# Altium footprint library C1206C225K5RACTU.PcbLib: 3 footprints
Each footprint in its own frame and in the unit in brackets; x right, y up, seen from the top. Pads: shape width x height; smd on the part's side, far side on the other; paste and mask are expansions set on the pad; w line width, h text height; cw(c..) or ccw(c..) is an arc to the next point about the centre after c.
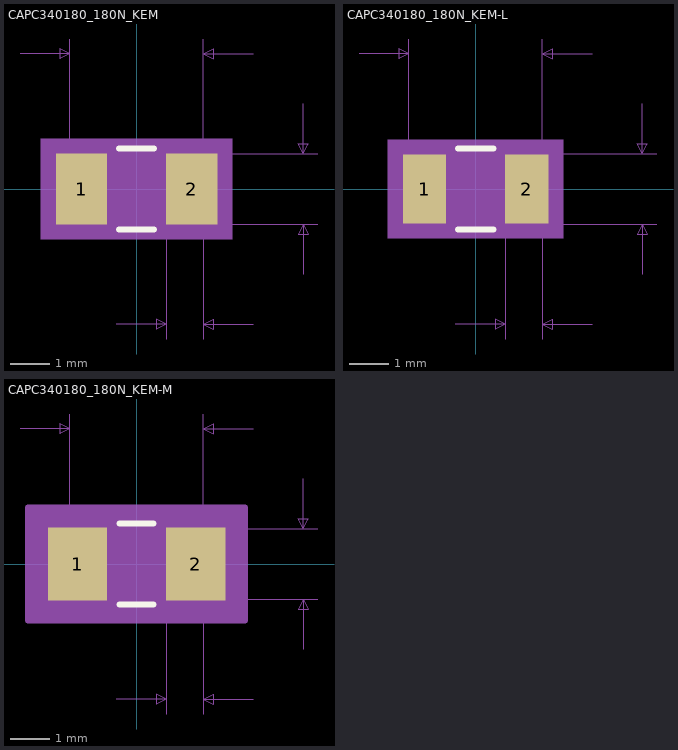
[diagram p0: the footprints below, top view; thin cyan lines are the x and y axes]

## CAPC340180_180N_KEM [mm]
pads (2):
  rect 1.306x1.8 smd paste+0 mask+0: 1(-1.403,0) 2(1.403,0)
Top Overlay:
  lines w0.152: -0.442,-1.027 0.442,-1.027 ; -0.442,1.027 0.442,1.027
Mechanical 5:
  region: 2.437,-1.281 -2.437,-1.281 -2.437,1.281 2.437,1.281
Mechanical 7:
  lines w0.025: -2.97,3.44 -1.7,3.44 ; -1.7,0 -1.7,3.821 ; -0.52,-3.44 0.75,-3.44 ; 0,-0.9 4.621,-0.9 ; 0,0.9 4.621,0.9 ; 0.75,-3.821 0.75,0 ; 1.7,-3.821 1.7,0 1.7,3.821 ; 2.97,-3.44 1.7,-3.44 ; 2.97,3.44 1.7,3.44 ; 4.24,-2.17 4.24,-0.9 ; 4.24,2.17 4.24,0.9 ; -1.7,3.44 -1.954,3.567 -1.954,3.313 -1.7,3.44 ; 0.75,-3.44 0.496,-3.313 0.496,-3.567 0.75,-3.44 ; 1.7,-3.44 1.954,-3.313 1.954,-3.567 1.7,-3.44 ; 1.7,3.44 1.954,3.567 1.954,3.313 1.7,3.44 ; 4.24,-0.9 4.113,-1.154 4.367,-1.154 4.24,-0.9 ; 4.24,0.9 4.113,1.154 4.367,1.154 4.24,0.9
  text "Default Padstyle: RX51p4Y70p87D0T" at -10.477,-7.758 h1.27
  text "Alternate 1 Padstyle: OX60Y90D30P" at -10.477,-10.298 h1.27
  text "Alternate 2 Padstyle: OX90Y60D30P" at -10.477,-12.838 h1.27
  text "0.071in/1.8mm" at 4.748,-0.318 h0.64
  text "0.134in/3.4mm" at -2.064,3.948 h0.64
  text "0.03in/0.75mm" at -0.839,-4.583 h0.64
Mechanical 13:
  lines w0.025: -1.7,-0.9 -1.7,0.9 ; -1.7,-0.9 -0.95,-0.9 -0.95,0.9 -1.7,0.9 ; -1.7,-0.9 1.7,-0.9 ; -1.7,-0.9 -1.7,0.9 ; -1.7,0.9 1.7,0.9 ; 1.7,-0.9 0.95,-0.9 0.95,0.9 1.7,0.9 ; 1.7,-0.9 1.7,0.9 ; 1.7,-0.9 1.7,0.9
Mechanical 15:
  region: 2.31,-1.154 -2.31,-1.154 -2.31,1.154 2.31,1.154
  lines w0.152: -2.31,-1.154 -2.31,1.154 2.31,1.154 2.31,-1.154 -2.31,-1.154
3D body "CAPC340180_180N_KEM.step": height 1.8, standoff 0, extent -1.7,-0.9 1.7,0.9

## CAPC340180_180N_KEM-L [mm]
pads (2):
  rect 1.102x1.749 smd paste+0 mask+0: 1(-1.301,0) 2(1.301,0)
Top Overlay:
  lines w0.152: -0.454,-1.027 0.454,-1.027 ; -0.454,1.027 0.454,1.027
Mechanical 5:
  region: 2.233,-1.256 -2.233,-1.256 -2.233,1.256 2.233,1.256
Mechanical 7:
  lines w0.025: -2.97,3.44 -1.7,3.44 ; -1.7,0 -1.7,3.821 ; -0.52,-3.44 0.75,-3.44 ; 0,-0.9 4.621,-0.9 ; 0,0.9 4.621,0.9 ; 0.75,-3.821 0.75,0 ; 1.7,-3.821 1.7,0 1.7,3.821 ; 2.97,-3.44 1.7,-3.44 ; 2.97,3.44 1.7,3.44 ; 4.24,-2.17 4.24,-0.9 ; 4.24,2.17 4.24,0.9 ; -1.7,3.44 -1.954,3.567 -1.954,3.313 -1.7,3.44 ; 0.75,-3.44 0.496,-3.313 0.496,-3.567 0.75,-3.44 ; 1.7,-3.44 1.954,-3.313 1.954,-3.567 1.7,-3.44 ; 1.7,3.44 1.954,3.567 1.954,3.313 1.7,3.44 ; 4.24,-0.9 4.113,-1.154 4.367,-1.154 4.24,-0.9 ; 4.24,0.9 4.113,1.154 4.367,1.154 4.24,0.9
  text "Default Padstyle: RX43p4Y68p87D0T" at -10.477,-7.733 h1.27
  text "Alternate 1 Padstyle: OX60Y90D30P" at -10.477,-10.273 h1.27
  text "Alternate 2 Padstyle: OX90Y60D30P" at -10.477,-12.813 h1.27
  text "0.071in/1.8mm" at 4.748,-0.318 h0.64
  text "0.134in/3.4mm" at -2.064,3.948 h0.64
  text "0.03in/0.75mm" at -0.839,-4.583 h0.64
Mechanical 13:
  lines w0.025: -1.7,-0.9 -1.7,0.9 ; -1.7,-0.9 -0.95,-0.9 -0.95,0.9 -1.7,0.9 ; -1.7,-0.9 1.7,-0.9 ; -1.7,-0.9 -1.7,0.9 ; -1.7,0.9 1.7,0.9 ; 1.7,-0.9 0.95,-0.9 0.95,0.9 1.7,0.9 ; 1.7,-0.9 1.7,0.9 ; 1.7,-0.9 1.7,0.9
Mechanical 15:
  region: 1.954,-0.976 -1.954,-0.976 -1.954,0.976 1.954,0.976
  lines w0.152: -1.954,-0.976 -1.954,0.976 1.954,0.976 1.954,-0.976 -1.954,-0.976
3D body "CAPC340180_180N_KEM.step": height 1.8, standoff 0, extent -1.7,-0.9 1.7,0.9

## CAPC340180_180N_KEM-M [mm]
pads (2):
  rect 1.509x1.851 smd paste+0 mask+0: 1(-1.504,0) 2(1.504,0)
Top Overlay:
  lines w0.152: -0.433,-1.027 0.433,-1.027 ; -0.433,1.027 0.433,1.027
Mechanical 5:
  region: 2.64,-1.306 -2.64,-1.306 -2.64,1.306 2.64,1.306
Mechanical 7:
  lines w0.025: -2.97,3.44 -1.7,3.44 ; -1.7,0 -1.7,3.821 ; -0.52,-3.44 0.75,-3.44 ; 0,-0.9 4.621,-0.9 ; 0,0.9 4.621,0.9 ; 0.75,-3.821 0.75,0 ; 1.7,-3.821 1.7,0 1.7,3.821 ; 2.97,-3.44 1.7,-3.44 ; 2.97,3.44 1.7,3.44 ; 4.24,-2.17 4.24,-0.9 ; 4.24,2.17 4.24,0.9 ; -1.7,3.44 -1.954,3.567 -1.954,3.313 -1.7,3.44 ; 0.75,-3.44 0.496,-3.313 0.496,-3.567 0.75,-3.44 ; 1.7,-3.44 1.954,-3.313 1.954,-3.567 1.7,-3.44 ; 1.7,3.44 1.954,3.567 1.954,3.313 1.7,3.44 ; 4.24,-0.9 4.113,-1.154 4.367,-1.154 4.24,-0.9 ; 4.24,0.9 4.113,1.154 4.367,1.154 4.24,0.9
  text "Default Padstyle: RX59p4Y72p87D0T" at -10.477,-7.783 h1.27
  text "Alternate 1 Padstyle: OX60Y90D30P" at -10.477,-10.323 h1.27
  text "Alternate 2 Padstyle: OX90Y60D30P" at -10.477,-12.863 h1.27
  text "0.071in/1.8mm" at 4.748,-0.318 h0.64
  text "0.134in/3.4mm" at -2.064,3.948 h0.64
  text "0.03in/0.75mm" at -0.839,-4.583 h0.64
Mechanical 13:
  lines w0.025: -1.7,-0.9 -1.7,0.9 ; -1.7,-0.9 -0.95,-0.9 -0.95,0.9 -1.7,0.9 ; -1.7,-0.9 1.7,-0.9 ; -1.7,-0.9 -1.7,0.9 ; -1.7,0.9 1.7,0.9 ; 1.7,-0.9 0.95,-0.9 0.95,0.9 1.7,0.9 ; 1.7,-0.9 1.7,0.9 ; 1.7,-0.9 1.7,0.9
Mechanical 15:
  region: 2.767,-1.433 -2.767,-1.433 -2.767,1.433 2.767,1.433
  lines w0.152: -2.767,-1.433 -2.767,1.433 2.767,1.433 2.767,-1.433 -2.767,-1.433
3D body "CAPC340180_180N_KEM.step": height 1.8, standoff 0, extent -1.7,-0.9 1.7,0.9